# Altium integrated library STLQ015M33R.IntLib: 1 symbol
Pins are listed as number, name and electrical type; pins without a type are passive.

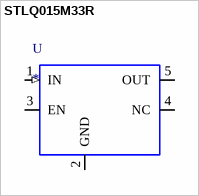
[diagram p0: symbol STLQ015M33R]

## STLQ015M33R
designator U
Linear Voltage Regulator IC 1 Output 150mA SOT-23-5; MF: STMicroelectronics; MP: STLQ015M33R; Availability: Unavailable; DigiKey-Purchase-URL: https://snapeda.com/shop?store=DigiKey&id=577122; Package: SOT-23-5 STMicroelectronics; Price: None; SnapEDA_Link: https://www.snapeda.com/parts/STLQ015M33R/STMicroelectronics/view-part/577122/?ref=snap; Value: *
footprint STLQ015M33R_SOT23A_12345
pins: 1 IN (in), 2 GND (power), 3 EN, 4 NC, 5 OUT (power)